# Altium schematic symbol library CarScanner Logo.SchLib: 1 symbol
Pins are listed as number, name and electrical type; pins without a type are passive.

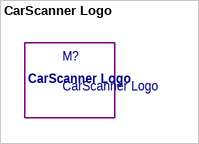
[diagram p0: symbol CarScanner Logo]

## CarScanner Logo
designator M?  (no BOM)